# EAGLE library part 6_PIN_CON (library Dmitry)
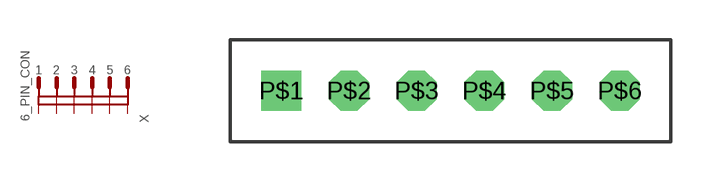
[diagram p4: symbol with the pads of 6_IN_PINS; footprint 6_IN_PINS]

Designator prefix X

## 6_PIN_CON  [6_IN_PINS]
P$1  1
P$2  2
P$3  3
P$4  4
P$5  5
P$6  6

## Footprint 6_IN_PINS (pad centres in mm)
drill 1 pad 1.422 square: P$1 0,0
drill 1 pad 1.422 octagon: P$2 2.54,0; P$3 5.08,0; P$4 7.62,0; P$5 10.16,0; P$6 12.7,0